# Altium integrated library Silicon Labs Automotive & Industrial MCUs.IntLib: 240 symbols (part 8 of 8)
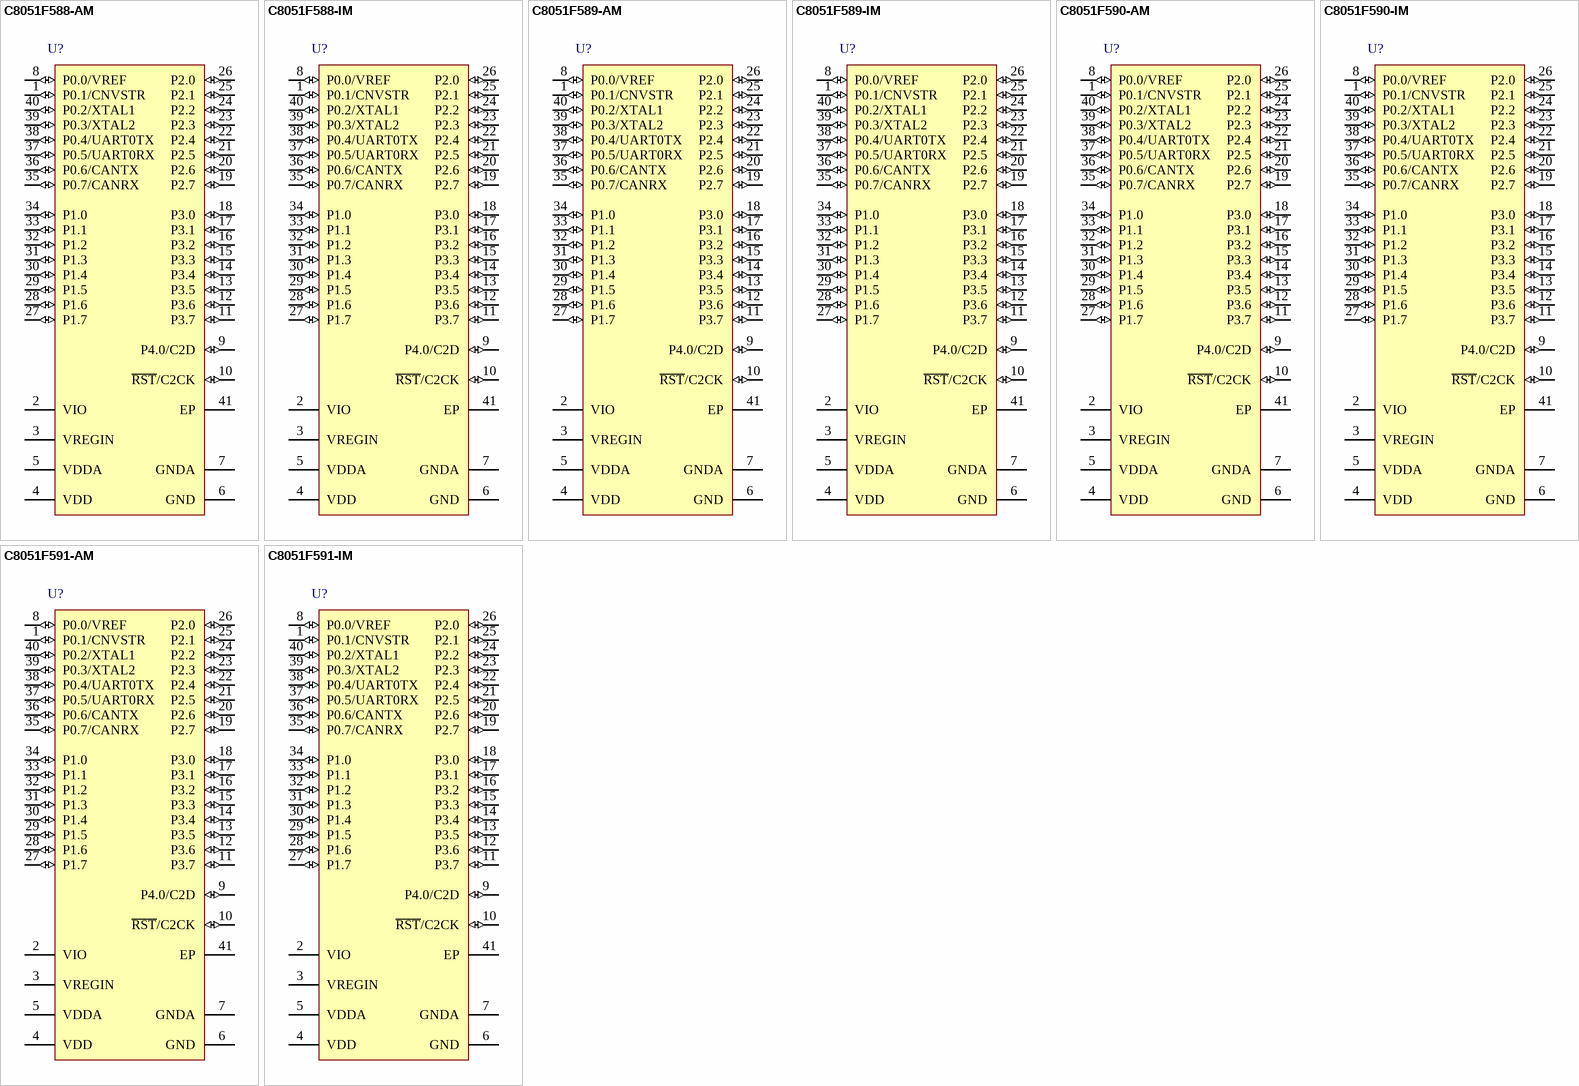
[diagram p20: symbols C8051F588-AM to C8051F591-IM]

## C8051F589-IM
designator U?
Mixed Signal 128KB ISP Flash MCU, 8448B RAM, 33 I/Os, 12-Bit 32 Channel ADC, 40-Pin QFN, Industrial Grade; Manufacturer: Silicon Labs; PartNumber: C8051F589-IM; DatasheetVersion: rev1.2, 2011; PackageVersion: 2011; PackageReference: QFN-40; PackageDescription: 40-Pin Quad Flat No-Lead, 6 x 6 x 0.85 mm Body, 0.5 mm Pitch; Supplier 1: Digi-Key; Supplier Part Number 1: 336-1581-5-ND; Supplier 2: Mouser; Supplier Part Number 2: 634-C8051F589-IM; Code_JEDEC: MO-220-VJJD-5; ComponentLink1Description: Manufacturer URL; ComponentLink1URL: http://www.silabs.com; ComponentLink2Description: Datasheet; ComponentLink2URL: http://www.silabs.com/Support%20Documents/TechnicalDocs/C8051F58x-59x.pdf
footprint QFN-40_V (QFN, 40-Leads, Body 6x6mm, Pitch 0.5mm, Thermal Pad 4.15x4.15mm, Silicon Labs Recommended)
pins: 1 P0.1/CNVSTR (io), 2 VIO (power), 3 VREGIN (power), 4 VDD (power), 5 VDDA (power), 6 GND (power), 7 GNDA (power), 8 P0.0/VREF (io), 9 P4.0/C2D (io), 10 ~{RST}/C2CK (io), 11 P3.7 (io), 12 P3.6 (io), 13 P3.5 (io), 14 P3.4 (io), 15 P3.3 (io), 16 P3.2 (io), 17 P3.1 (io), 18 P3.0 (io), 19 P2.7 (io), 20 P2.6 (io), 21 P2.5 (io), 22 P2.4 (io), 23 P2.3 (io), 24 P2.2 (io), 25 P2.1 (io), 26 P2.0 (io), 27 P1.7 (io), 28 P1.6 (io), 29 P1.5 (io), 30 P1.4 (io), 31 P1.3 (io), 32 P1.2 (io), 33 P1.1 (io), 34 P1.0 (io), 35 P0.7/CANRX (io), 36 P0.6/CANTX (io), 37 P0.5/UART0RX (io), 38 P0.4/UART0TX (io), 39 P0.3/XTAL2 (io), 40 P0.2/XTAL1 (io), 41 EP (power)

## C8051F590-AM
designator U?
Mixed Signal 96KB ISP Flash MCU, 8448B RAM, 33 I/Os, 12-Bit 32 Channel ADC, CAN 2.0, LIN 2.1, 40-Pin QFN, Automotive Grade; Manufacturer: Silicon Labs; PartNumber: C8051F590-AM; DatasheetVersion: rev1.2, 2011; PackageVersion: 2011; PackageReference: QFN-40; PackageDescription: 40-Pin Quad Flat No-Lead, 6 x 6 x 0.85 mm Body, 0.5 mm Pitch; Code_JEDEC: MO-220-VJJD-5; ComponentLink1Description: Manufacturer URL; ComponentLink1URL: http://www.silabs.com; ComponentLink2Description: Datasheet; ComponentLink2URL: http://www.silabs.com/Support%20Documents/TechnicalDocs/C8051F58x-59x.pdf
footprint QFN-40_V (QFN, 40-Leads, Body 6x6mm, Pitch 0.5mm, Thermal Pad 4.15x4.15mm, Silicon Labs Recommended)
pins: 1 P0.1/CNVSTR (io), 2 VIO (power), 3 VREGIN (power), 4 VDD (power), 5 VDDA (power), 6 GND (power), 7 GNDA (power), 8 P0.0/VREF (io), 9 P4.0/C2D (io), 10 ~{RST}/C2CK (io), 11 P3.7 (io), 12 P3.6 (io), 13 P3.5 (io), 14 P3.4 (io), 15 P3.3 (io), 16 P3.2 (io), 17 P3.1 (io), 18 P3.0 (io), 19 P2.7 (io), 20 P2.6 (io), 21 P2.5 (io), 22 P2.4 (io), 23 P2.3 (io), 24 P2.2 (io), 25 P2.1 (io), 26 P2.0 (io), 27 P1.7 (io), 28 P1.6 (io), 29 P1.5 (io), 30 P1.4 (io), 31 P1.3 (io), 32 P1.2 (io), 33 P1.1 (io), 34 P1.0 (io), 35 P0.7/CANRX (io), 36 P0.6/CANTX (io), 37 P0.5/UART0RX (io), 38 P0.4/UART0TX (io), 39 P0.3/XTAL2 (io), 40 P0.2/XTAL1 (io), 41 EP (power)

## C8051F590-IM
designator U?
Mixed Signal 96KB ISP Flash MCU, 8448B RAM, 33 I/Os, 12-Bit 32 Channel ADC, CAN 2.0, LIN 2.1, 40-Pin QFN, Industrial Grade; Manufacturer: Silicon Labs; PartNumber: C8051F590-IM; DatasheetVersion: rev1.2, 2011; PackageVersion: 2011; PackageReference: QFN-40; PackageDescription: 40-Pin Quad Flat No-Lead, 6 x 6 x 0.85 mm Body, 0.5 mm Pitch; Supplier 1: Digi-Key; Supplier Part Number 1: 336-1582-5-ND; Supplier 2: Mouser; Supplier Part Number 2: 634-C8051F590-IM; Code_JEDEC: MO-220-VJJD-5; ComponentLink1Description: Manufacturer URL; ComponentLink1URL: http://www.silabs.com; ComponentLink2Description: Datasheet; ComponentLink2URL: http://www.silabs.com/Support%20Documents/TechnicalDocs/C8051F58x-59x.pdf
footprint QFN-40_V (QFN, 40-Leads, Body 6x6mm, Pitch 0.5mm, Thermal Pad 4.15x4.15mm, Silicon Labs Recommended)
pins: 1 P0.1/CNVSTR (io), 2 VIO (power), 3 VREGIN (power), 4 VDD (power), 5 VDDA (power), 6 GND (power), 7 GNDA (power), 8 P0.0/VREF (io), 9 P4.0/C2D (io), 10 ~{RST}/C2CK (io), 11 P3.7 (io), 12 P3.6 (io), 13 P3.5 (io), 14 P3.4 (io), 15 P3.3 (io), 16 P3.2 (io), 17 P3.1 (io), 18 P3.0 (io), 19 P2.7 (io), 20 P2.6 (io), 21 P2.5 (io), 22 P2.4 (io), 23 P2.3 (io), 24 P2.2 (io), 25 P2.1 (io), 26 P2.0 (io), 27 P1.7 (io), 28 P1.6 (io), 29 P1.5 (io), 30 P1.4 (io), 31 P1.3 (io), 32 P1.2 (io), 33 P1.1 (io), 34 P1.0 (io), 35 P0.7/CANRX (io), 36 P0.6/CANTX (io), 37 P0.5/UART0RX (io), 38 P0.4/UART0TX (io), 39 P0.3/XTAL2 (io), 40 P0.2/XTAL1 (io), 41 EP (power)

## C8051F591-AM
designator U?
Mixed Signal 96KB ISP Flash MCU, 8448B RAM, 33 I/Os, 12-Bit 32 Channel ADC, 40-Pin QFN, Automotive Grade; Manufacturer: Silicon Labs; PartNumber: C8051F591-AM; DatasheetVersion: rev1.2, 2011; PackageVersion: 2011; PackageReference: QFN-40; PackageDescription: 40-Pin Quad Flat No-Lead, 6 x 6 x 0.85 mm Body, 0.5 mm Pitch; Code_JEDEC: MO-220-VJJD-5; ComponentLink1Description: Manufacturer URL; ComponentLink1URL: http://www.silabs.com; ComponentLink2Description: Datasheet; ComponentLink2URL: http://www.silabs.com/Support%20Documents/TechnicalDocs/C8051F58x-59x.pdf
footprint QFN-40_V (QFN, 40-Leads, Body 6x6mm, Pitch 0.5mm, Thermal Pad 4.15x4.15mm, Silicon Labs Recommended)
pins: 1 P0.1/CNVSTR (io), 2 VIO (power), 3 VREGIN (power), 4 VDD (power), 5 VDDA (power), 6 GND (power), 7 GNDA (power), 8 P0.0/VREF (io), 9 P4.0/C2D (io), 10 ~{RST}/C2CK (io), 11 P3.7 (io), 12 P3.6 (io), 13 P3.5 (io), 14 P3.4 (io), 15 P3.3 (io), 16 P3.2 (io), 17 P3.1 (io), 18 P3.0 (io), 19 P2.7 (io), 20 P2.6 (io), 21 P2.5 (io), 22 P2.4 (io), 23 P2.3 (io), 24 P2.2 (io), 25 P2.1 (io), 26 P2.0 (io), 27 P1.7 (io), 28 P1.6 (io), 29 P1.5 (io), 30 P1.4 (io), 31 P1.3 (io), 32 P1.2 (io), 33 P1.1 (io), 34 P1.0 (io), 35 P0.7/CANRX (io), 36 P0.6/CANTX (io), 37 P0.5/UART0RX (io), 38 P0.4/UART0TX (io), 39 P0.3/XTAL2 (io), 40 P0.2/XTAL1 (io), 41 EP (power)

## C8051F591-IM
designator U?
Mixed Signal 96KB ISP Flash MCU, 8448B RAM, 33 I/Os, 12-Bit 32 Channel ADC, 40-Pin QFN, Industrial Grade; Manufacturer: Silicon Labs; PartNumber: C8051F591-IM; DatasheetVersion: rev1.2, 2011; PackageVersion: 2011; PackageReference: QFN-40; PackageDescription: 40-Pin Quad Flat No-Lead, 6 x 6 x 0.85 mm Body, 0.5 mm Pitch; Supplier 1: Digi-Key; Supplier Part Number 1: 336-1583-5-ND; Supplier 2: Mouser; Supplier Part Number 2: 634-C8051F591-IM; Code_JEDEC: MO-220-VJJD-5; ComponentLink1Description: Manufacturer URL; ComponentLink1URL: http://www.silabs.com; ComponentLink2Description: Datasheet; ComponentLink2URL: http://www.silabs.com/Support%20Documents/TechnicalDocs/C8051F58x-59x.pdf
footprint QFN-40_V (QFN, 40-Leads, Body 6x6mm, Pitch 0.5mm, Thermal Pad 4.15x4.15mm, Silicon Labs Recommended)
pins: 1 P0.1/CNVSTR (io), 2 VIO (power), 3 VREGIN (power), 4 VDD (power), 5 VDDA (power), 6 GND (power), 7 GNDA (power), 8 P0.0/VREF (io), 9 P4.0/C2D (io), 10 ~{RST}/C2CK (io), 11 P3.7 (io), 12 P3.6 (io), 13 P3.5 (io), 14 P3.4 (io), 15 P3.3 (io), 16 P3.2 (io), 17 P3.1 (io), 18 P3.0 (io), 19 P2.7 (io), 20 P2.6 (io), 21 P2.5 (io), 22 P2.4 (io), 23 P2.3 (io), 24 P2.2 (io), 25 P2.1 (io), 26 P2.0 (io), 27 P1.7 (io), 28 P1.6 (io), 29 P1.5 (io), 30 P1.4 (io), 31 P1.3 (io), 32 P1.2 (io), 33 P1.1 (io), 34 P1.0 (io), 35 P0.7/CANRX (io), 36 P0.6/CANTX (io), 37 P0.5/UART0RX (io), 38 P0.4/UART0TX (io), 39 P0.3/XTAL2 (io), 40 P0.2/XTAL1 (io), 41 EP (power)